# Altium footprint library AMP Footprints.PcbLib: 903 footprints (part 36 of 58)
Each footprint in its own frame and in the unit in brackets; x right, y up, seen from the top. Pads: shape width x height; smd on the part's side, far side on the other; paste and mask are expansions set on the pad; w line width, h text height; cw(c..) or ccw(c..) is an arc to the next point about the centre after c.
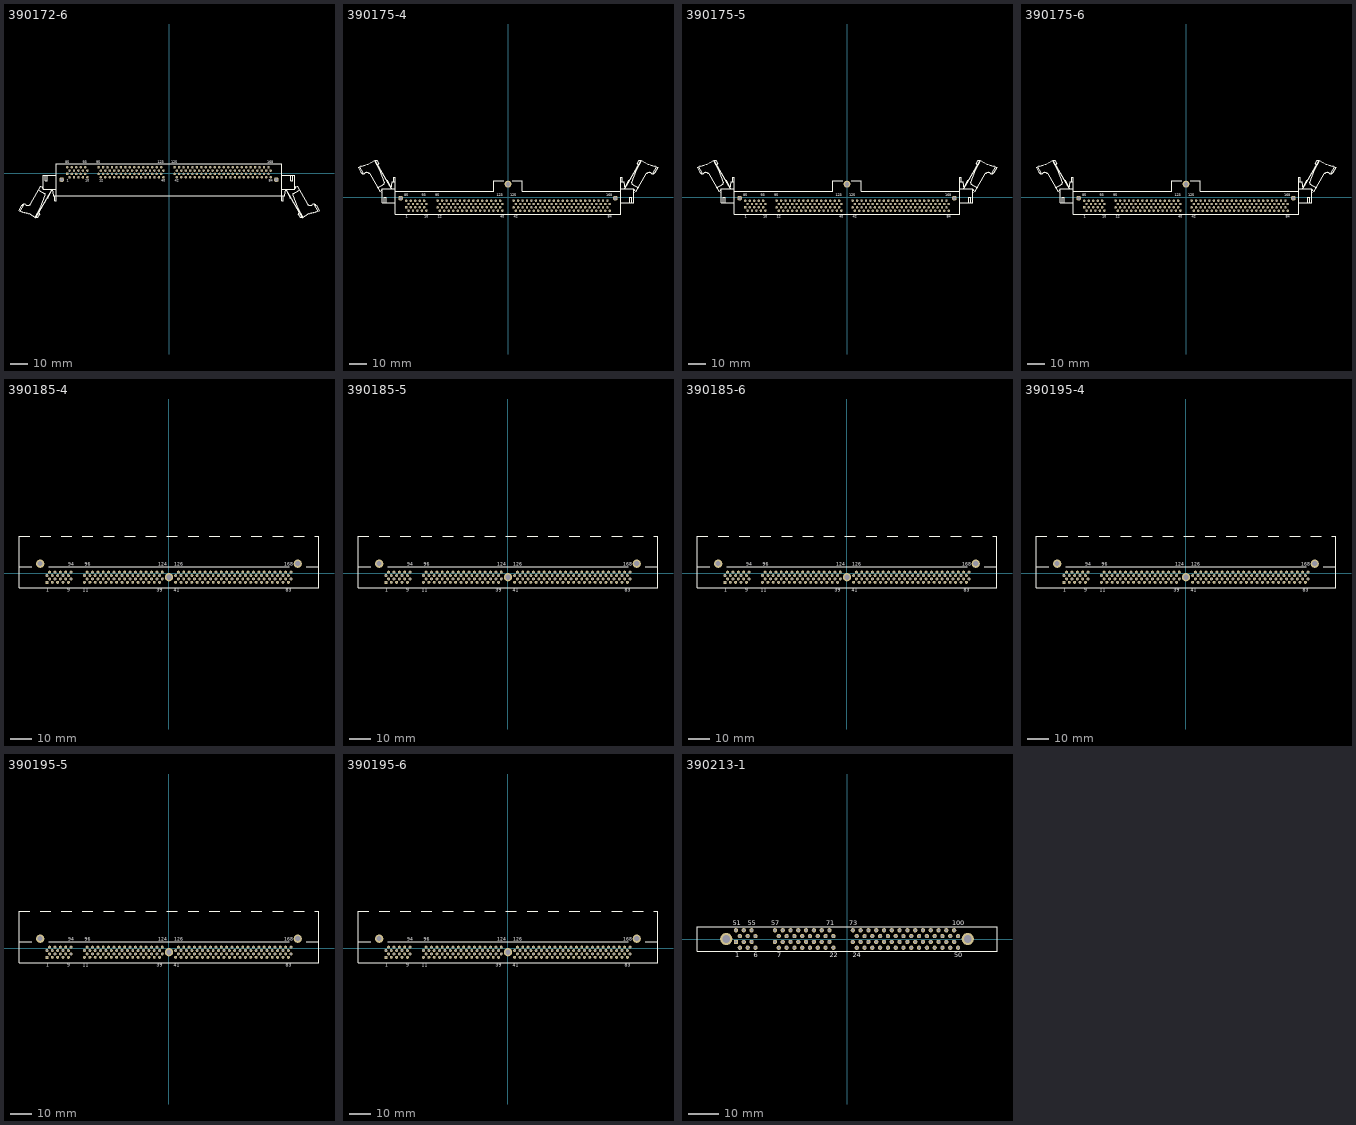
[diagram p35: the footprints below, top view; thin cyan lines are the x and y axes]

## 390172-6 [mm] "Connector; DIMM II; 168 Position; Right Angle"
height 12.7
pads (170):
  rect 1.4x1.4 hole 0.8: 1(-57.785,-0.245)
  round 1.4 hole 0.8: 2(-56.515,-2.145) 3(-55.245,-0.245) 4(-53.975,-2.145) 5(-52.705,-0.245) 6(-51.435,-2.145) 7(-50.165,-0.245) 8(-48.895,-2.145) 9(-47.625,-0.245) 10(-46.355,-2.145) 11(-40.005,-0.245) 12(-38.735,-2.145) 13(-37.465,-0.245) 14(-36.195,-2.145) 15(-34.925,-0.245) 16(-33.655,-2.145) 17(-32.385,-0.245) 18(-31.115,-2.145) 19(-29.845,-0.245) 20(-28.575,-2.145) 21(-27.305,-0.245) 22(-26.035,-2.145) 23(-24.765,-0.245) 24(-23.495,-2.145) 25(-22.225,-0.245) 26(-20.955,-2.145) 27(-19.685,-0.245) 28(-18.415,-2.145) 29(-17.145,-0.245) 30(-15.875,-2.145) 31(-14.605,-0.245) 32(-13.335,-2.145) 33(-12.065,-0.245) 34(-10.795,-2.145) 35(-9.525,-0.245) 36(-8.255,-2.145) 37(-6.985,-0.245) 38(-5.715,-2.145) 39(-4.445,-0.245) 40(-3.175,-2.145) 41(3.175,-0.245) 42(4.445,-2.145) 43(5.715,-0.245) 44(6.985,-2.145) 45(8.255,-0.245) 46(9.525,-2.145) 47(10.795,-0.245) 48(12.065,-2.145) 49(13.335,-0.245) 50(14.605,-2.145) 51(15.875,-0.245) 52(17.145,-2.145) 53(18.415,-0.245) 54(19.685,-2.145) 55(20.955,-0.245) 56(22.225,-2.145) 57(23.495,-0.245) 58(24.765,-2.145) 59(26.035,-0.245) 60(27.305,-2.145) 61(28.575,-0.245) 62(29.845,-2.145) 63(31.115,-0.245) 64(32.385,-2.145) 65(33.655,-0.245) 66(34.925,-2.145) 67(36.195,-0.245) 68(37.465,-2.145) 69(38.735,-0.245) 70(40.005,-2.145) 71(41.275,-0.245) 72(42.545,-2.145) 73(43.815,-0.245) 74(45.085,-2.145) 75(46.355,-0.245) 76(47.625,-2.145) 77(48.895,-0.245) 78(50.165,-2.145) 79(51.435,-0.245) 80(52.705,-2.145) 81(53.975,-0.245) 82(55.245,-2.145) 83(56.515,-0.245) 84(57.785,-2.145) 85(-57.785,3.555) 86(-56.515,1.655) 87(-55.245,3.555) 88(-53.975,1.655) 89(-52.705,3.555) 90(-51.435,1.655) 91(-50.165,3.555) 92(-48.895,1.655) 93(-47.625,3.555) 94(-46.355,1.655) 95(-40.005,3.555) 96(-38.735,1.655) 97(-37.465,3.555) 98(-36.195,1.655) 99(-34.925,3.555) 100(-33.655,1.655) 101(-32.385,3.555) 102(-31.115,1.655) 103(-29.845,3.555) 104(-28.575,1.655) 105(-27.305,3.555) 106(-26.035,1.655) 107(-24.765,3.555) 108(-23.495,1.655) 109(-22.225,3.555) 110(-20.955,1.655) 111(-19.685,3.555) 112(-18.415,1.655) 113(-17.145,3.555) 114(-15.875,1.655) 115(-14.605,3.555) 116(-13.335,1.655) 117(-12.065,3.555) 118(-10.795,1.655) 119(-9.525,3.555) 120(-8.255,1.655) 121(-6.985,3.555) 122(-5.715,1.655) 123(-4.445,3.555) 124(-3.175,1.655) 125(3.175,3.555) 126(4.445,1.655) 127(5.715,3.555) 128(6.985,1.655) 129(8.255,3.555) 130(9.525,1.655) 131(10.795,3.555) 132(12.065,1.655) 133(13.335,3.555) 134(14.605,1.655) 135(15.875,3.555) 136(17.145,1.655) 137(18.415,3.555) 138(19.685,1.655) 139(20.955,3.555) 140(22.225,1.655) 141(23.495,3.555) 142(24.765,1.655) 143(26.035,3.555) 144(27.305,1.655) 145(28.575,3.555) 146(29.845,1.655) 147(31.115,3.555) 148(32.385,1.655) 149(33.655,3.555) 150(34.925,1.655) 151(36.195,3.555) 152(37.465,1.655) 153(38.735,3.555) 154(40.005,1.655) 155(41.275,3.555) 156(42.545,1.655) 157(43.815,3.555) 158(45.085,1.655) 159(46.355,3.555) 160(47.625,1.655) 161(48.895,3.555) 162(50.165,1.655) 163(51.435,3.555) 164(52.705,1.655) 165(53.975,3.555) 166(55.245,1.655) 167(56.515,3.555) 168(57.785,1.655)
  round 2.778 hole 1.778: 169(-60.96,-3.555) 170(60.96,-3.555)
Top Overlay:
  lines w0.25: -84.364,-21.363 -83.299,-21.978 -83.129,-21.683 -82.072,-22.293 -81.991,-22.271 -81.871,-22.064 -80.918,-22.614 -80.803,-22.414 -79.85,-22.964 -79.705,-22.713 -75.652,-25.053 -66.372,-8.98 -68.472,-13.755 -69.13,-13.755 ; -83.575,-18.216 cw(c-82.222,-18.997) -81.441,-17.644 ; -83.54,-18.155 -85.22,-21.065 -84.467,-21.5 -84.372,-21.335 -82.138,-17.487 ; -81.44,-17.647 -80.959,-17.925 ccw(c-80.125,-16.48) -78.679,-17.314 ; -78.664,-17.31 -72.924,-7.368 -71.52,-6.855 ; -75.999,-24.853 -73.049,-19.744 -70.225,-12.333 ccw(c-70.844,-12.118) -70.588,-11.515 ; -75.622,-25.001 -74.612,-24.972 -73.507,-23.058 -73.92,-22.173 ; -74.124,-9.446 -70.469,-11.556 ; -71.52,-8.675 -72.028,-8.167 -71.52,-7.659 ; -70.32,-1.055 -70.32,-4.085 -69.07,-4.085 -69.07,-1.055 ; -66.4,-8.925 -65.76,-12.775 -64,-12.775 ; -65.04,-12.805 -65.04,-15.525 -64,-15.525 -64,-12.775 ; -64,-8.855 -71.52,-8.855 -71.52,-1.055 -64,-1.055 ; 64,-8.855 71.52,-8.855 71.52,-1.055 64,-1.055 ; 65.04,-12.805 65.04,-15.525 64,-15.525 64,-12.775 ; 66.4,-8.925 65.76,-12.775 64,-12.775 ; 69.07,-1.055 69.07,-4.085 70.32,-4.085 70.32,-1.055 ; 69.13,-13.755 68.472,-13.755 66.372,-8.98 75.652,-25.053 79.705,-22.713 79.85,-22.964 80.803,-22.414 80.918,-22.614 81.871,-22.064 81.991,-22.271 82.072,-22.293 83.129,-21.683 83.299,-21.978 84.364,-21.363 ; 70.469,-11.556 74.124,-9.446 ; 70.588,-11.515 ccw(c70.844,-12.118) 70.225,-12.333 73.049,-19.744 75.999,-24.853 ; 71.52,-8.675 72.028,-8.167 71.52,-7.659 ; 71.52,-6.855 72.924,-7.368 78.664,-17.31 ; 73.92,-22.173 73.507,-23.058 74.612,-24.972 75.622,-25.001 ; 78.679,-17.314 ccw(c80.125,-16.48) 80.959,-17.925 81.44,-17.647 ; 81.441,-17.644 cw(c82.222,-18.997) 83.575,-18.216 ; 82.138,-17.487 84.372,-21.335 84.467,-21.5 85.22,-21.065 83.54,-18.155 ; -64,-12.775 64,-12.775 ; -64,-12.775 -64,-1.055 ; -64,-1.055 -64,5.445 64,5.445 64,-1.055 ; 64,-12.775 64,-1.055
  text "1" at -58.035,-4.72 h1.5
  text "85" at -59.035,5.92 h1.5
  text "10" at -47.48,-4.72 h1.5
  text "93" at -48.875,5.92 h1.5
  text "95" at -41.255,5.92 h1.5
  text "40" at -4.425,-4.72 h1.5
  text "123" at -6.32,5.92 h1.5
  text "125" at 1.3,5.92 h1.5
  text "42" at 3.195,-4.72 h1.5
  text "84" at 56.535,-4.72 h1.5
  text "168" at 55.91,5.92 h1.5
  text "12" at -39.61,-4.72 h1.5

## 390175-4 [mm] "Connector; DIMM II; 168 Position; Right Angle"
height 14.35
pads (171):
  rect 1.4x1.4 hole 0.81: 1(-57.785,-5.645)
  round 1.4 hole 0.81: 2(-56.515,-7.545) 3(-55.245,-5.645) 4(-53.975,-7.545) 5(-52.705,-5.645) 6(-51.435,-7.545) 7(-50.165,-5.645) 8(-48.895,-7.545) 9(-47.625,-5.645) 10(-46.355,-7.545) 11(-40.005,-5.645) 12(-38.735,-7.545) 13(-37.465,-5.645) 14(-36.195,-7.545) 15(-34.925,-5.645) 16(-33.655,-7.545) 17(-32.385,-5.645) 18(-31.115,-7.545) 19(-29.845,-5.645) 20(-28.575,-7.545) 21(-27.305,-5.645) 22(-26.035,-7.545) 23(-24.765,-5.645) 24(-23.495,-7.545) 25(-22.225,-5.645) 26(-20.955,-7.545) 27(-19.685,-5.645) 28(-18.415,-7.545) 29(-17.145,-5.645) 30(-15.875,-7.545) 31(-14.605,-5.645) 32(-13.335,-7.545) 33(-12.065,-5.645) 34(-10.795,-7.545) 35(-9.525,-5.645) 36(-8.255,-7.545) 37(-6.985,-5.645) 38(-5.715,-7.545) 39(-4.445,-5.645) 40(-3.175,-7.545) 41(3.175,-5.645) 42(4.445,-7.545) 43(5.715,-5.645) 44(6.985,-7.545) 45(8.255,-5.645) 46(9.525,-7.545) 47(10.795,-5.645) 48(12.065,-7.545) 49(13.335,-5.645) 50(14.605,-7.545) 51(15.875,-5.645) 52(17.145,-7.545) 53(18.415,-5.645) 54(19.685,-7.545) 55(20.955,-5.645) 56(22.225,-7.545) 57(23.495,-5.645) 58(24.765,-7.545) 59(26.035,-5.645) 60(27.305,-7.545) 61(28.575,-5.645) 62(29.845,-7.545) 63(31.115,-5.645) 64(32.385,-7.545) 65(33.655,-5.645) 66(34.925,-7.545) 67(36.195,-5.645) 68(37.465,-7.545) 69(38.735,-5.645) 70(40.005,-7.545) 71(41.275,-5.645) 72(42.545,-7.545) 73(43.815,-5.645) 74(45.085,-7.545) 75(46.355,-5.645) 76(47.625,-7.545) 77(48.895,-5.645) 78(50.165,-7.545) 79(51.435,-5.645) 80(52.705,-7.545) 81(53.975,-5.645) 82(55.245,-7.545) 83(56.515,-5.645) 84(57.785,-7.545) 85(-57.785,-1.845) 86(-56.515,-3.745) 87(-55.245,-1.845) 88(-53.975,-3.745) 89(-52.705,-1.845) 90(-51.435,-3.745) 91(-50.165,-1.845) 92(-48.895,-3.745) 93(-47.625,-1.845) 94(-46.355,-3.745) 95(-40.005,-1.845) 96(-38.735,-3.745) 97(-37.465,-1.845) 98(-36.195,-3.745) 99(-34.925,-1.845) 100(-33.655,-3.745) 101(-32.385,-1.845) 102(-31.115,-3.745) 103(-29.845,-1.845) 104(-28.575,-3.745) 105(-27.305,-1.845) 106(-26.035,-3.745) 107(-24.765,-1.845) 108(-23.495,-3.745) 109(-22.225,-1.845) 110(-20.955,-3.745) 111(-19.685,-1.845) 112(-18.415,-3.745) 113(-17.145,-1.845) 114(-15.875,-3.745) 115(-14.605,-1.845) 116(-13.335,-3.745) 117(-12.065,-1.845) 118(-10.795,-3.745) 119(-9.525,-1.845) 120(-8.255,-3.745) 121(-6.985,-1.845) 122(-5.715,-3.745) 123(-4.445,-1.845) 124(-3.175,-3.745) 125(3.175,-1.845) 126(4.445,-3.745) 127(5.715,-1.845) 128(6.985,-3.745) 129(8.255,-1.845) 130(9.525,-3.745) 131(10.795,-1.845) 132(12.065,-3.745) 133(13.335,-1.845) 134(14.605,-3.745) 135(15.875,-1.845) 136(17.145,-3.745) 137(18.415,-1.845) 138(19.685,-3.745) 139(20.955,-1.845) 140(22.225,-3.745) 141(23.495,-1.845) 142(24.765,-3.745) 143(26.035,-1.845) 144(27.305,-3.745) 145(28.575,-1.845) 146(29.845,-3.745) 147(31.115,-1.845) 148(32.385,-3.745) 149(33.655,-1.845) 150(34.925,-3.745) 151(36.195,-1.845) 152(37.465,-3.745) 153(38.735,-1.845) 154(40.005,-3.745) 155(41.275,-1.845) 156(42.545,-3.745) 157(43.815,-1.845) 158(45.085,-3.745) 159(46.355,-1.845) 160(47.625,-3.745) 161(48.895,-1.845) 162(50.165,-3.745) 163(51.435,-1.845) 164(52.705,-3.745) 165(53.975,-1.845) 166(55.245,-3.745) 167(56.515,-1.845) 168(57.785,-3.745)
  round 2.778 hole 1.778: 169(60.96,-0.455) 171(-60.96,-0.455)
  round 3.94 hole 2.44: 170(0,7.545)
Top Overlay:
  lines w0.25: -84.364,17.373 -83.299,17.988 -83.129,17.693 -82.072,18.303 -81.991,18.281 -81.871,18.074 -80.918,18.624 -80.803,18.424 -79.85,18.974 -79.705,18.723 -75.652,21.063 -66.372,4.99 -68.472,9.765 -69.13,9.765 ; -83.575,14.226 ccw(c-82.222,15.007) -81.441,13.654 ; -83.54,14.165 -85.22,17.075 -84.467,17.51 -84.372,17.345 -82.138,13.497 ; -81.44,13.657 -80.959,13.935 cw(c-80.125,12.49) -78.679,13.324 ; -78.664,13.32 -72.924,3.378 -71.52,2.865 ; -75.999,20.863 -73.049,15.754 -70.225,8.343 cw(c-70.844,8.128) -70.588,7.525 ; -75.622,21.011 -74.612,20.982 -73.507,19.068 -73.92,18.183 ; -74.124,5.456 -70.469,7.566 ; -71.52,3.669 -72.028,4.177 -71.52,4.685 ; -70.32,-2.935 -70.32,0.095 -69.07,0.095 -69.07,-2.935 ; -66.4,4.935 -65.76,8.785 -64,8.785 ; -65.04,8.815 -65.04,11.535 -64,11.535 -64,8.785 ; -64,3.565 -8.115,3.565 -8.115,9.565 -2.5,9.565 ; -64,4.865 -71.52,4.865 -71.52,-2.935 -64,-2.935 ; 2.5,9.565 8.115,9.565 8.115,3.565 64,3.565 ; 64,4.865 71.52,4.865 71.52,-2.935 64,-2.935 ; 65.04,8.815 65.04,11.535 64,11.535 64,8.785 ; 66.4,4.935 65.76,8.785 64,8.785 ; 69.07,-2.935 69.07,0.095 70.32,0.095 70.32,-2.935 ; 69.13,9.765 68.472,9.765 66.372,4.99 75.652,21.063 79.705,18.723 79.85,18.974 80.803,18.424 80.918,18.624 81.871,18.074 81.991,18.281 82.072,18.303 83.129,17.693 83.299,17.988 84.364,17.373 ; 70.469,7.566 74.124,5.456 ; 70.588,7.525 cw(c70.844,8.128) 70.225,8.343 73.049,15.754 75.999,20.863 ; 71.52,2.865 72.924,3.378 78.664,13.32 ; 71.52,3.669 72.028,4.177 71.52,4.685 ; 73.92,18.183 73.507,19.068 74.612,20.982 75.622,21.011 ; 78.679,13.324 cw(c80.125,12.49) 80.959,13.935 81.44,13.657 ; 81.441,13.654 ccw(c82.222,15.007) 83.575,14.226 ; 82.138,13.497 84.372,17.345 84.467,17.51 85.22,17.075 83.54,14.165 ; -64,-2.935 -64,8.785 ; -64,-2.935 -64,-9.435 64,-9.435 64,-2.935 ; 64,-2.935 64,8.785
  text "40" at -4.425,-11.515 h1.5
  text "1" at -58.035,-11.515 h1.5
  text "85" at -59.035,0.655 h1.5
  text "10" at -47.605,-11.515 h1.5
  text "93" at -48.875,0.655 h1.5
  text "95" at -41.255,0.655 h1.5
  text "123" at -6.445,0.655 h1.5
  text "125" at 1.175,0.655 h1.5
  text "42" at 3.195,-11.515 h1.5
  text "84" at 56.535,-11.515 h1.5
  text "168" at 55.785,0.655 h1.5
  text "12" at -39.985,-11.515 h1.5

## 390175-5 [mm] "Connector; DIMM II; 168 Position; Right Angle"
height 14.35
pads (171):
  rect 1.4x1.4 hole 0.81: 1(-57.785,-5.645)
  round 1.4 hole 0.81: 2(-56.515,-7.545) 3(-55.245,-5.645) 4(-53.975,-7.545) 5(-52.705,-5.645) 6(-51.435,-7.545) 7(-50.165,-5.645) 8(-48.895,-7.545) 9(-47.625,-5.645) 10(-46.355,-7.545) 11(-40.005,-5.645) 12(-38.735,-7.545) 13(-37.465,-5.645) 14(-36.195,-7.545) 15(-34.925,-5.645) 16(-33.655,-7.545) 17(-32.385,-5.645) 18(-31.115,-7.545) 19(-29.845,-5.645) 20(-28.575,-7.545) 21(-27.305,-5.645) 22(-26.035,-7.545) 23(-24.765,-5.645) 24(-23.495,-7.545) 25(-22.225,-5.645) 26(-20.955,-7.545) 27(-19.685,-5.645) 28(-18.415,-7.545) 29(-17.145,-5.645) 30(-15.875,-7.545) 31(-14.605,-5.645) 32(-13.335,-7.545) 33(-12.065,-5.645) 34(-10.795,-7.545) 35(-9.525,-5.645) 36(-8.255,-7.545) 37(-6.985,-5.645) 38(-5.715,-7.545) 39(-4.445,-5.645) 40(-3.175,-7.545) 41(3.175,-5.645) 42(4.445,-7.545) 43(5.715,-5.645) 44(6.985,-7.545) 45(8.255,-5.645) 46(9.525,-7.545) 47(10.795,-5.645) 48(12.065,-7.545) 49(13.335,-5.645) 50(14.605,-7.545) 51(15.875,-5.645) 52(17.145,-7.545) 53(18.415,-5.645) 54(19.685,-7.545) 55(20.955,-5.645) 56(22.225,-7.545) 57(23.495,-5.645) 58(24.765,-7.545) 59(26.035,-5.645) 60(27.305,-7.545) 61(28.575,-5.645) 62(29.845,-7.545) 63(31.115,-5.645) 64(32.385,-7.545) 65(33.655,-5.645) 66(34.925,-7.545) 67(36.195,-5.645) 68(37.465,-7.545) 69(38.735,-5.645) 70(40.005,-7.545) 71(41.275,-5.645) 72(42.545,-7.545) 73(43.815,-5.645) 74(45.085,-7.545) 75(46.355,-5.645) 76(47.625,-7.545) 77(48.895,-5.645) 78(50.165,-7.545) 79(51.435,-5.645) 80(52.705,-7.545) 81(53.975,-5.645) 82(55.245,-7.545) 83(56.515,-5.645) 84(57.785,-7.545) 85(-57.785,-1.845) 86(-56.515,-3.745) 87(-55.245,-1.845) 88(-53.975,-3.745) 89(-52.705,-1.845) 90(-51.435,-3.745) 91(-50.165,-1.845) 92(-48.895,-3.745) 93(-47.625,-1.845) 94(-46.355,-3.745) 95(-40.005,-1.845) 96(-38.735,-3.745) 97(-37.465,-1.845) 98(-36.195,-3.745) 99(-34.925,-1.845) 100(-33.655,-3.745) 101(-32.385,-1.845) 102(-31.115,-3.745) 103(-29.845,-1.845) 104(-28.575,-3.745) 105(-27.305,-1.845) 106(-26.035,-3.745) 107(-24.765,-1.845) 108(-23.495,-3.745) 109(-22.225,-1.845) 110(-20.955,-3.745) 111(-19.685,-1.845) 112(-18.415,-3.745) 113(-17.145,-1.845) 114(-15.875,-3.745) 115(-14.605,-1.845) 116(-13.335,-3.745) 117(-12.065,-1.845) 118(-10.795,-3.745) 119(-9.525,-1.845) 120(-8.255,-3.745) 121(-6.985,-1.845) 122(-5.715,-3.745) 123(-4.445,-1.845) 124(-3.175,-3.745) 125(3.175,-1.845) 126(4.445,-3.745) 127(5.715,-1.845) 128(6.985,-3.745) 129(8.255,-1.845) 130(9.525,-3.745) 131(10.795,-1.845) 132(12.065,-3.745) 133(13.335,-1.845) 134(14.605,-3.745) 135(15.875,-1.845) 136(17.145,-3.745) 137(18.415,-1.845) 138(19.685,-3.745) 139(20.955,-1.845) 140(22.225,-3.745) 141(23.495,-1.845) 142(24.765,-3.745) 143(26.035,-1.845) 144(27.305,-3.745) 145(28.575,-1.845) 146(29.845,-3.745) 147(31.115,-1.845) 148(32.385,-3.745) 149(33.655,-1.845) 150(34.925,-3.745) 151(36.195,-1.845) 152(37.465,-3.745) 153(38.735,-1.845) 154(40.005,-3.745) 155(41.275,-1.845) 156(42.545,-3.745) 157(43.815,-1.845) 158(45.085,-3.745) 159(46.355,-1.845) 160(47.625,-3.745) 161(48.895,-1.845) 162(50.165,-3.745) 163(51.435,-1.845) 164(52.705,-3.745) 165(53.975,-1.845) 166(55.245,-3.745) 167(56.515,-1.845) 168(57.785,-3.745)
  round 2.778 hole 1.778: 169(60.96,-0.455) 171(-60.96,-0.455)
  round 3.94 hole 2.44: 170(0,7.545)
Top Overlay:
  lines w0.25: -84.364,17.373 -83.299,17.988 -83.129,17.693 -82.072,18.303 -81.991,18.281 -81.871,18.074 -80.918,18.624 -80.803,18.424 -79.85,18.974 -79.705,18.723 -75.652,21.063 -66.372,4.99 -68.472,9.765 -69.13,9.765 ; -83.575,14.226 ccw(c-82.222,15.007) -81.441,13.654 ; -83.54,14.165 -85.22,17.075 -84.467,17.51 -84.372,17.345 -82.138,13.497 ; -81.44,13.657 -80.959,13.935 cw(c-80.125,12.49) -78.679,13.324 ; -78.664,13.32 -72.924,3.378 -71.52,2.865 ; -75.999,20.863 -73.049,15.754 -70.225,8.343 cw(c-70.844,8.128) -70.588,7.525 ; -75.622,21.011 -74.612,20.982 -73.507,19.068 -73.92,18.183 ; -74.124,5.456 -70.469,7.566 ; -71.52,3.669 -72.028,4.177 -71.52,4.685 ; -70.32,-2.935 -70.32,0.095 -69.07,0.095 -69.07,-2.935 ; -66.4,4.935 -65.76,8.785 -64,8.785 ; -65.04,8.815 -65.04,11.535 -64,11.535 -64,8.785 ; -64,3.565 -8.115,3.565 -8.115,9.565 -2.5,9.565 ; -64,4.865 -71.52,4.865 -71.52,-2.935 -64,-2.935 ; 2.5,9.565 8.115,9.565 8.115,3.565 64,3.565 ; 64,4.865 71.52,4.865 71.52,-2.935 64,-2.935 ; 65.04,8.815 65.04,11.535 64,11.535 64,8.785 ; 66.4,4.935 65.76,8.785 64,8.785 ; 69.07,-2.935 69.07,0.095 70.32,0.095 70.32,-2.935 ; 69.13,9.765 68.472,9.765 66.372,4.99 75.652,21.063 79.705,18.723 79.85,18.974 80.803,18.424 80.918,18.624 81.871,18.074 81.991,18.281 82.072,18.303 83.129,17.693 83.299,17.988 84.364,17.373 ; 70.469,7.566 74.124,5.456 ; 70.588,7.525 cw(c70.844,8.128) 70.225,8.343 73.049,15.754 75.999,20.863 ; 71.52,2.865 72.924,3.378 78.664,13.32 ; 71.52,3.669 72.028,4.177 71.52,4.685 ; 73.92,18.183 73.507,19.068 74.612,20.982 75.622,21.011 ; 78.679,13.324 cw(c80.125,12.49) 80.959,13.935 81.44,13.657 ; 81.441,13.654 ccw(c82.222,15.007) 83.575,14.226 ; 82.138,13.497 84.372,17.345 84.467,17.51 85.22,17.075 83.54,14.165 ; -64,-2.935 -64,8.785 ; -64,-2.935 -64,-9.435 64,-9.435 64,-2.935 ; 64,-2.935 64,8.785
  text "40" at -4.425,-11.515 h1.5
  text "1" at -58.035,-11.515 h1.5
  text "85" at -59.035,0.655 h1.5
  text "10" at -47.605,-11.515 h1.5
  text "93" at -48.875,0.655 h1.5
  text "95" at -41.255,0.655 h1.5
  text "123" at -6.445,0.655 h1.5
  text "125" at 1.175,0.655 h1.5
  text "42" at 3.195,-11.515 h1.5
  text "84" at 56.535,-11.515 h1.5
  text "168" at 55.785,0.655 h1.5
  text "12" at -39.985,-11.515 h1.5

## 390175-6 [mm] "Connector; DIMM II; 168 Position; Right Angle"
height 14.35
pads (171):
  rect 1.4x1.4 hole 0.81: 1(-57.785,-5.645)
  round 1.4 hole 0.81: 2(-56.515,-7.545) 3(-55.245,-5.645) 4(-53.975,-7.545) 5(-52.705,-5.645) 6(-51.435,-7.545) 7(-50.165,-5.645) 8(-48.895,-7.545) 9(-47.625,-5.645) 10(-46.355,-7.545) 11(-40.005,-5.645) 12(-38.735,-7.545) 13(-37.465,-5.645) 14(-36.195,-7.545) 15(-34.925,-5.645) 16(-33.655,-7.545) 17(-32.385,-5.645) 18(-31.115,-7.545) 19(-29.845,-5.645) 20(-28.575,-7.545) 21(-27.305,-5.645) 22(-26.035,-7.545) 23(-24.765,-5.645) 24(-23.495,-7.545) 25(-22.225,-5.645) 26(-20.955,-7.545) 27(-19.685,-5.645) 28(-18.415,-7.545) 29(-17.145,-5.645) 30(-15.875,-7.545) 31(-14.605,-5.645) 32(-13.335,-7.545) 33(-12.065,-5.645) 34(-10.795,-7.545) 35(-9.525,-5.645) 36(-8.255,-7.545) 37(-6.985,-5.645) 38(-5.715,-7.545) 39(-4.445,-5.645) 40(-3.175,-7.545) 41(3.175,-5.645) 42(4.445,-7.545) 43(5.715,-5.645) 44(6.985,-7.545) 45(8.255,-5.645) 46(9.525,-7.545) 47(10.795,-5.645) 48(12.065,-7.545) 49(13.335,-5.645) 50(14.605,-7.545) 51(15.875,-5.645) 52(17.145,-7.545) 53(18.415,-5.645) 54(19.685,-7.545) 55(20.955,-5.645) 56(22.225,-7.545) 57(23.495,-5.645) 58(24.765,-7.545) 59(26.035,-5.645) 60(27.305,-7.545) 61(28.575,-5.645) 62(29.845,-7.545) 63(31.115,-5.645) 64(32.385,-7.545) 65(33.655,-5.645) 66(34.925,-7.545) 67(36.195,-5.645) 68(37.465,-7.545) 69(38.735,-5.645) 70(40.005,-7.545) 71(41.275,-5.645) 72(42.545,-7.545) 73(43.815,-5.645) 74(45.085,-7.545) 75(46.355,-5.645) 76(47.625,-7.545) 77(48.895,-5.645) 78(50.165,-7.545) 79(51.435,-5.645) 80(52.705,-7.545) 81(53.975,-5.645) 82(55.245,-7.545) 83(56.515,-5.645) 84(57.785,-7.545) 85(-57.785,-1.845) 86(-56.515,-3.745) 87(-55.245,-1.845) 88(-53.975,-3.745) 89(-52.705,-1.845) 90(-51.435,-3.745) 91(-50.165,-1.845) 92(-48.895,-3.745) 93(-47.625,-1.845) 94(-46.355,-3.745) 95(-40.005,-1.845) 96(-38.735,-3.745) 97(-37.465,-1.845) 98(-36.195,-3.745) 99(-34.925,-1.845) 100(-33.655,-3.745) 101(-32.385,-1.845) 102(-31.115,-3.745) 103(-29.845,-1.845) 104(-28.575,-3.745) 105(-27.305,-1.845) 106(-26.035,-3.745) 107(-24.765,-1.845) 108(-23.495,-3.745) 109(-22.225,-1.845) 110(-20.955,-3.745) 111(-19.685,-1.845) 112(-18.415,-3.745) 113(-17.145,-1.845) 114(-15.875,-3.745) 115(-14.605,-1.845) 116(-13.335,-3.745) 117(-12.065,-1.845) 118(-10.795,-3.745) 119(-9.525,-1.845) 120(-8.255,-3.745) 121(-6.985,-1.845) 122(-5.715,-3.745) 123(-4.445,-1.845) 124(-3.175,-3.745) 125(3.175,-1.845) 126(4.445,-3.745) 127(5.715,-1.845) 128(6.985,-3.745) 129(8.255,-1.845) 130(9.525,-3.745) 131(10.795,-1.845) 132(12.065,-3.745) 133(13.335,-1.845) 134(14.605,-3.745) 135(15.875,-1.845) 136(17.145,-3.745) 137(18.415,-1.845) 138(19.685,-3.745) 139(20.955,-1.845) 140(22.225,-3.745) 141(23.495,-1.845) 142(24.765,-3.745) 143(26.035,-1.845) 144(27.305,-3.745) 145(28.575,-1.845) 146(29.845,-3.745) 147(31.115,-1.845) 148(32.385,-3.745) 149(33.655,-1.845) 150(34.925,-3.745) 151(36.195,-1.845) 152(37.465,-3.745) 153(38.735,-1.845) 154(40.005,-3.745) 155(41.275,-1.845) 156(42.545,-3.745) 157(43.815,-1.845) 158(45.085,-3.745) 159(46.355,-1.845) 160(47.625,-3.745) 161(48.895,-1.845) 162(50.165,-3.745) 163(51.435,-1.845) 164(52.705,-3.745) 165(53.975,-1.845) 166(55.245,-3.745) 167(56.515,-1.845) 168(57.785,-3.745)
  round 2.778 hole 1.778: 169(60.96,-0.455) 171(-60.96,-0.455)
  round 3.94 hole 2.44: 170(0,7.545)
Top Overlay:
  lines w0.25: -84.364,17.373 -83.299,17.988 -83.129,17.693 -82.072,18.303 -81.991,18.281 -81.871,18.074 -80.918,18.624 -80.803,18.424 -79.85,18.974 -79.705,18.723 -75.652,21.063 -66.372,4.99 -68.472,9.765 -69.13,9.765 ; -83.575,14.226 ccw(c-82.222,15.007) -81.441,13.654 ; -83.54,14.165 -85.22,17.075 -84.467,17.51 -84.372,17.345 -82.138,13.497 ; -81.44,13.657 -80.959,13.935 cw(c-80.125,12.49) -78.679,13.324 ; -78.664,13.32 -72.924,3.378 -71.52,2.865 ; -75.999,20.863 -73.049,15.754 -70.225,8.343 cw(c-70.844,8.128) -70.588,7.525 ; -75.622,21.011 -74.612,20.982 -73.507,19.068 -73.92,18.183 ; -74.124,5.456 -70.469,7.566 ; -71.52,3.669 -72.028,4.177 -71.52,4.685 ; -70.32,-2.935 -70.32,0.095 -69.07,0.095 -69.07,-2.935 ; -66.4,4.935 -65.76,8.785 -64,8.785 ; -65.04,8.815 -65.04,11.535 -64,11.535 -64,8.785 ; -64,3.565 -8.115,3.565 -8.115,9.565 -2.5,9.565 ; -64,4.865 -71.52,4.865 -71.52,-2.935 -64,-2.935 ; 2.5,9.565 8.115,9.565 8.115,3.565 64,3.565 ; 64,4.865 71.52,4.865 71.52,-2.935 64,-2.935 ; 65.04,8.815 65.04,11.535 64,11.535 64,8.785 ; 66.4,4.935 65.76,8.785 64,8.785 ; 69.07,-2.935 69.07,0.095 70.32,0.095 70.32,-2.935 ; 69.13,9.765 68.472,9.765 66.372,4.99 75.652,21.063 79.705,18.723 79.85,18.974 80.803,18.424 80.918,18.624 81.871,18.074 81.991,18.281 82.072,18.303 83.129,17.693 83.299,17.988 84.364,17.373 ; 70.469,7.566 74.124,5.456 ; 70.588,7.525 cw(c70.844,8.128) 70.225,8.343 73.049,15.754 75.999,20.863 ; 71.52,2.865 72.924,3.378 78.664,13.32 ; 71.52,3.669 72.028,4.177 71.52,4.685 ; 73.92,18.183 73.507,19.068 74.612,20.982 75.622,21.011 ; 78.679,13.324 cw(c80.125,12.49) 80.959,13.935 81.44,13.657 ; 81.441,13.654 ccw(c82.222,15.007) 83.575,14.226 ; 82.138,13.497 84.372,17.345 84.467,17.51 85.22,17.075 83.54,14.165 ; -64,-2.935 -64,8.785 ; -64,-2.935 -64,-9.435 64,-9.435 64,-2.935 ; 64,-2.935 64,8.785
  text "40" at -4.425,-11.515 h1.5
  text "1" at -58.035,-11.515 h1.5
  text "85" at -59.035,0.655 h1.5
  text "10" at -47.605,-11.515 h1.5
  text "93" at -48.875,0.655 h1.5
  text "95" at -41.255,0.655 h1.5
  text "123" at -6.445,0.655 h1.5
  text "125" at 1.175,0.655 h1.5
  text "42" at 3.195,-11.515 h1.5
  text "84" at 56.535,-11.515 h1.5
  text "168" at 55.785,0.655 h1.5
  text "12" at -39.985,-11.515 h1.5

## 390185-4 [mm] "Connector; DIMM II; 168 Position; Orientation 25°"
height 14.93
pads (171):
  rect 1.4x1.4 hole 0.8: 1(-57.785,-4.4)
  round 1.4 hole 0.8: 2(-56.515,-2.8) 3(-55.245,-4.4) 4(-53.975,-2.8) 5(-52.705,-4.4) 6(-51.435,-2.8) 7(-50.165,-4.4) 8(-48.895,-2.8) 9(-47.625,-4.4) 10(-46.355,-2.8) 11(-40.005,-4.4) 12(-38.735,-2.8) 13(-37.465,-4.4) 14(-36.195,-2.8) 15(-34.925,-4.4) 16(-33.655,-2.8) 17(-32.385,-4.4) 18(-31.115,-2.8) 19(-29.845,-4.4) 20(-28.575,-2.8) 21(-27.305,-4.4) 22(-26.035,-2.8) 23(-24.765,-4.4) 24(-23.495,-2.8) 25(-22.225,-4.4) 26(-20.955,-2.8) 27(-19.685,-4.4) 28(-18.415,-2.8) 29(-17.145,-4.4) 30(-15.875,-2.8) 31(-14.605,-4.4) 32(-13.335,-2.8) 33(-12.065,-4.4) 34(-10.795,-2.8) 35(-9.525,-4.4) 36(-8.255,-2.8) 37(-6.985,-4.4) 38(-5.715,-2.8) 39(-4.445,-4.4) 40(-3.175,-2.8) 41(3.175,-4.4) 42(4.445,-2.8) 43(5.715,-4.4) 44(6.985,-2.8) 45(8.255,-4.4) 46(9.525,-2.8) 47(10.795,-4.4) 48(12.065,-2.8) 49(13.335,-4.4) 50(14.605,-2.8) 51(15.875,-4.4) 52(17.145,-2.8) 53(18.415,-4.4) 54(19.685,-2.8) 55(20.955,-4.4) 56(22.225,-2.8) 57(23.495,-4.4) 58(24.765,-2.8) 59(26.035,-4.4) 60(27.305,-2.8) 61(28.575,-4.4) 62(29.845,-2.8) 63(31.115,-4.4) 64(32.385,-2.8) 65(33.655,-4.4) 66(34.925,-2.8) 67(36.195,-4.4) 68(37.465,-2.8) 69(38.735,-4.4) 70(40.005,-2.8) 71(41.275,-4.4) 72(42.545,-2.8) 73(43.815,-4.4) 74(45.085,-2.8) 75(46.355,-4.4) 76(47.625,-2.8) 77(48.895,-4.4) 78(50.165,-2.8) 79(51.435,-4.4) 80(52.705,-2.8) 81(53.975,-4.4) 82(55.245,-2.8) 83(56.515,-4.4) 84(57.785,-2.8) 85(-57.785,-1.2) 86(-56.515,0.4) 87(-55.245,-1.2) 88(-53.975,0.4) 89(-52.705,-1.2) 90(-51.435,0.4) 91(-50.165,-1.2) 92(-48.895,0.4) 93(-47.625,-1.2) 94(-46.355,0.4) 95(-40.005,-1.2) 96(-38.735,0.4) 97(-37.465,-1.2) 98(-36.195,0.4) 99(-34.925,-1.2) 100(-33.655,0.4) 101(-32.385,-1.2) 102(-31.115,0.4) 103(-29.845,-1.2) 104(-28.575,0.4) 105(-27.305,-1.2) 106(-26.035,0.4) 107(-24.765,-1.2) 108(-23.495,0.4) 109(-22.225,-1.2) 110(-20.955,0.4) 111(-19.685,-1.2) 112(-18.415,0.4) 113(-17.145,-1.2) 114(-15.875,0.4) 115(-14.605,-1.2) 116(-13.335,0.4) 117(-12.065,-1.2) 118(-10.795,0.4) 119(-9.525,-1.2) 120(-8.255,0.4) 121(-6.985,-1.2) 122(-5.715,0.4) 123(-4.445,-1.2) 124(-3.175,0.4) 125(3.175,-1.2) 126(4.445,0.4) 127(5.715,-1.2) 128(6.985,0.4) 129(8.255,-1.2) 130(9.525,0.4) 131(10.795,-1.2) 132(12.065,0.4) 133(13.335,-1.2) 134(14.605,0.4) 135(15.875,-1.2) 136(17.145,0.4) 137(18.415,-1.2) 138(19.685,0.4) 139(20.955,-1.2) 140(22.225,0.4) 141(23.495,-1.2) 142(24.765,0.4) 143(26.035,-1.2) 144(27.305,0.4) 145(28.575,-1.2) 146(29.845,0.4) 147(31.115,-1.2) 148(32.385,0.4) 149(33.655,-1.2) 150(34.925,0.4) 151(36.195,-1.2) 152(37.465,0.4) 153(38.735,-1.2) 154(40.005,0.4) 155(41.275,-1.2) 156(42.545,0.4) 157(43.815,-1.2) 158(45.085,0.4) 159(46.355,-1.2) 160(47.625,0.4) 161(48.895,-1.2) 162(50.165,0.4) 163(51.435,-1.2) 164(52.705,0.4) 165(53.975,-1.2) 166(55.245,0.4) 167(56.515,-1.2) 168(57.785,0.4)
  round 3.9 hole 2.4: 169(-60.96,4.4) 170(0,-2) 171(60.96,4.4)
Top Overlay:
  lines w0.2: -70.98,3 -70.98,17.5 -65.98,17.5 ; -65,3 -71,3 -71,-7 71,-7 71,3 ; -60.98,17.5 -55.98,17.5 ; -57,3 57,3 ; -50.98,17.5 -45.98,17.5 ; -40.98,17.5 -35.98,17.5 ; -30.98,17.5 -25.98,17.5 ; -20.98,17.5 -15.98,17.5 ; -10.98,17.5 -5.98,17.5 ; -0.98,17.5 4.02,17.5 ; 9.02,17.5 14.02,17.5 ; 19.02,17.5 24.02,17.5 ; 29.02,17.5 34.02,17.5 ; 39.02,17.5 44.02,17.5 ; 49.02,17.5 54.02,17.5 ; 59.02,17.5 64.02,17.5 ; 65,3 71,3 ; 69.02,17.5 71.02,17.5 ; 71,17.5 71,3
  text "1" at -58.035,-8.975 h1.5
  text "94" at -47.605,3.475 h1.5
  text "11" at -40.88,-8.975 h1.5
  text "96" at -39.985,3.475 h1.5
  text "124" at -5.05,3.475 h1.5
  text "41" at 2.175,-8.975 h1.5
  text "126" at 2.57,3.475 h1.5
  text "83" at 55.265,-8.975 h1.5
  text "9" at -48.125,-8.975 h1.5
  text "39" at -5.695,-8.975 h1.5
  text "168" at 54.585,3.475 h1.5

## 390185-5 [mm] "Connector; DIMM II; 168 Position; Orientation 25°"
height 14.93
pads (171):
  rect 1.4x1.4 hole 0.8: 1(-57.785,-4.4)
  round 1.4 hole 0.8: 2(-56.515,-2.8) 3(-55.245,-4.4) 4(-53.975,-2.8) 5(-52.705,-4.4) 6(-51.435,-2.8) 7(-50.165,-4.4) 8(-48.895,-2.8) 9(-47.625,-4.4) 10(-46.355,-2.8) 11(-40.005,-4.4) 12(-38.735,-2.8) 13(-37.465,-4.4) 14(-36.195,-2.8) 15(-34.925,-4.4) 16(-33.655,-2.8) 17(-32.385,-4.4) 18(-31.115,-2.8) 19(-29.845,-4.4) 20(-28.575,-2.8) 21(-27.305,-4.4) 22(-26.035,-2.8) 23(-24.765,-4.4) 24(-23.495,-2.8) 25(-22.225,-4.4) 26(-20.955,-2.8) 27(-19.685,-4.4) 28(-18.415,-2.8) 29(-17.145,-4.4) 30(-15.875,-2.8) 31(-14.605,-4.4) 32(-13.335,-2.8) 33(-12.065,-4.4) 34(-10.795,-2.8) 35(-9.525,-4.4) 36(-8.255,-2.8) 37(-6.985,-4.4) 38(-5.715,-2.8) 39(-4.445,-4.4) 40(-3.175,-2.8) 41(3.175,-4.4) 42(4.445,-2.8) 43(5.715,-4.4) 44(6.985,-2.8) 45(8.255,-4.4) 46(9.525,-2.8) 47(10.795,-4.4) 48(12.065,-2.8) 49(13.335,-4.4) 50(14.605,-2.8) 51(15.875,-4.4) 52(17.145,-2.8) 53(18.415,-4.4) 54(19.685,-2.8) 55(20.955,-4.4) 56(22.225,-2.8) 57(23.495,-4.4) 58(24.765,-2.8) 59(26.035,-4.4) 60(27.305,-2.8) 61(28.575,-4.4) 62(29.845,-2.8) 63(31.115,-4.4) 64(32.385,-2.8) 65(33.655,-4.4) 66(34.925,-2.8) 67(36.195,-4.4) 68(37.465,-2.8) 69(38.735,-4.4) 70(40.005,-2.8) 71(41.275,-4.4) 72(42.545,-2.8) 73(43.815,-4.4) 74(45.085,-2.8) 75(46.355,-4.4) 76(47.625,-2.8) 77(48.895,-4.4) 78(50.165,-2.8) 79(51.435,-4.4) 80(52.705,-2.8) 81(53.975,-4.4) 82(55.245,-2.8) 83(56.515,-4.4) 84(57.785,-2.8) 85(-57.785,-1.2) 86(-56.515,0.4) 87(-55.245,-1.2) 88(-53.975,0.4) 89(-52.705,-1.2) 90(-51.435,0.4) 91(-50.165,-1.2) 92(-48.895,0.4) 93(-47.625,-1.2) 94(-46.355,0.4) 95(-40.005,-1.2) 96(-38.735,0.4) 97(-37.465,-1.2) 98(-36.195,0.4) 99(-34.925,-1.2) 100(-33.655,0.4) 101(-32.385,-1.2) 102(-31.115,0.4) 103(-29.845,-1.2) 104(-28.575,0.4) 105(-27.305,-1.2) 106(-26.035,0.4) 107(-24.765,-1.2) 108(-23.495,0.4) 109(-22.225,-1.2) 110(-20.955,0.4) 111(-19.685,-1.2) 112(-18.415,0.4) 113(-17.145,-1.2) 114(-15.875,0.4) 115(-14.605,-1.2) 116(-13.335,0.4) 117(-12.065,-1.2) 118(-10.795,0.4) 119(-9.525,-1.2) 120(-8.255,0.4) 121(-6.985,-1.2) 122(-5.715,0.4) 123(-4.445,-1.2) 124(-3.175,0.4) 125(3.175,-1.2) 126(4.445,0.4) 127(5.715,-1.2) 128(6.985,0.4) 129(8.255,-1.2) 130(9.525,0.4) 131(10.795,-1.2) 132(12.065,0.4) 133(13.335,-1.2) 134(14.605,0.4) 135(15.875,-1.2) 136(17.145,0.4) 137(18.415,-1.2) 138(19.685,0.4) 139(20.955,-1.2) 140(22.225,0.4) 141(23.495,-1.2) 142(24.765,0.4) 143(26.035,-1.2) 144(27.305,0.4) 145(28.575,-1.2) 146(29.845,0.4) 147(31.115,-1.2) 148(32.385,0.4) 149(33.655,-1.2) 150(34.925,0.4) 151(36.195,-1.2) 152(37.465,0.4) 153(38.735,-1.2) 154(40.005,0.4) 155(41.275,-1.2) 156(42.545,0.4) 157(43.815,-1.2) 158(45.085,0.4) 159(46.355,-1.2) 160(47.625,0.4) 161(48.895,-1.2) 162(50.165,0.4) 163(51.435,-1.2) 164(52.705,0.4) 165(53.975,-1.2) 166(55.245,0.4) 167(56.515,-1.2) 168(57.785,0.4)
  round 3.9 hole 2.4: 169(-60.96,4.4) 170(0,-2) 171(60.96,4.4)
Top Overlay:
  lines w0.2: -70.98,3 -70.98,17.5 -65.98,17.5 ; -65,3 -71,3 -71,-7 71,-7 71,3 ; -60.98,17.5 -55.98,17.5 ; -57,3 57,3 ; -50.98,17.5 -45.98,17.5 ; -40.98,17.5 -35.98,17.5 ; -30.98,17.5 -25.98,17.5 ; -20.98,17.5 -15.98,17.5 ; -10.98,17.5 -5.98,17.5 ; -0.98,17.5 4.02,17.5 ; 9.02,17.5 14.02,17.5 ; 19.02,17.5 24.02,17.5 ; 29.02,17.5 34.02,17.5 ; 39.02,17.5 44.02,17.5 ; 49.02,17.5 54.02,17.5 ; 59.02,17.5 64.02,17.5 ; 65,3 71,3 ; 69.02,17.5 71.02,17.5 ; 71,17.5 71,3
  text "1" at -58.035,-8.975 h1.5
  text "94" at -47.605,3.475 h1.5
  text "11" at -40.88,-8.975 h1.5
  text "96" at -39.985,3.475 h1.5
  text "124" at -5.05,3.475 h1.5
  text "41" at 2.175,-8.975 h1.5
  text "126" at 2.57,3.475 h1.5
  text "83" at 55.265,-8.975 h1.5
  text "9" at -48.125,-8.975 h1.5
  text "39" at -5.695,-8.975 h1.5
  text "168" at 54.585,3.475 h1.5

## 390185-6 [mm] "Connector; DIMM II; 168 Position; Orientation 25°"
height 14.93
pads (171):
  rect 1.4x1.4 hole 0.8: 1(-57.785,-4.4)
  round 1.4 hole 0.8: 2(-56.515,-2.8) 3(-55.245,-4.4) 4(-53.975,-2.8) 5(-52.705,-4.4) 6(-51.435,-2.8) 7(-50.165,-4.4) 8(-48.895,-2.8) 9(-47.625,-4.4) 10(-46.355,-2.8) 11(-40.005,-4.4) 12(-38.735,-2.8) 13(-37.465,-4.4) 14(-36.195,-2.8) 15(-34.925,-4.4) 16(-33.655,-2.8) 17(-32.385,-4.4) 18(-31.115,-2.8) 19(-29.845,-4.4) 20(-28.575,-2.8) 21(-27.305,-4.4) 22(-26.035,-2.8) 23(-24.765,-4.4) 24(-23.495,-2.8) 25(-22.225,-4.4) 26(-20.955,-2.8) 27(-19.685,-4.4) 28(-18.415,-2.8) 29(-17.145,-4.4) 30(-15.875,-2.8) 31(-14.605,-4.4) 32(-13.335,-2.8) 33(-12.065,-4.4) 34(-10.795,-2.8) 35(-9.525,-4.4) 36(-8.255,-2.8) 37(-6.985,-4.4) 38(-5.715,-2.8) 39(-4.445,-4.4) 40(-3.175,-2.8) 41(3.175,-4.4) 42(4.445,-2.8) 43(5.715,-4.4) 44(6.985,-2.8) 45(8.255,-4.4) 46(9.525,-2.8) 47(10.795,-4.4) 48(12.065,-2.8) 49(13.335,-4.4) 50(14.605,-2.8) 51(15.875,-4.4) 52(17.145,-2.8) 53(18.415,-4.4) 54(19.685,-2.8) 55(20.955,-4.4) 56(22.225,-2.8) 57(23.495,-4.4) 58(24.765,-2.8) 59(26.035,-4.4) 60(27.305,-2.8) 61(28.575,-4.4) 62(29.845,-2.8) 63(31.115,-4.4) 64(32.385,-2.8) 65(33.655,-4.4) 66(34.925,-2.8) 67(36.195,-4.4) 68(37.465,-2.8) 69(38.735,-4.4) 70(40.005,-2.8) 71(41.275,-4.4) 72(42.545,-2.8) 73(43.815,-4.4) 74(45.085,-2.8) 75(46.355,-4.4) 76(47.625,-2.8) 77(48.895,-4.4) 78(50.165,-2.8) 79(51.435,-4.4) 80(52.705,-2.8) 81(53.975,-4.4) 82(55.245,-2.8) 83(56.515,-4.4) 84(57.785,-2.8) 85(-57.785,-1.2) 86(-56.515,0.4) 87(-55.245,-1.2) 88(-53.975,0.4) 89(-52.705,-1.2) 90(-51.435,0.4) 91(-50.165,-1.2) 92(-48.895,0.4) 93(-47.625,-1.2) 94(-46.355,0.4) 95(-40.005,-1.2) 96(-38.735,0.4) 97(-37.465,-1.2) 98(-36.195,0.4) 99(-34.925,-1.2) 100(-33.655,0.4) 101(-32.385,-1.2) 102(-31.115,0.4) 103(-29.845,-1.2) 104(-28.575,0.4) 105(-27.305,-1.2) 106(-26.035,0.4) 107(-24.765,-1.2) 108(-23.495,0.4) 109(-22.225,-1.2) 110(-20.955,0.4) 111(-19.685,-1.2) 112(-18.415,0.4) 113(-17.145,-1.2) 114(-15.875,0.4) 115(-14.605,-1.2) 116(-13.335,0.4) 117(-12.065,-1.2) 118(-10.795,0.4) 119(-9.525,-1.2) 120(-8.255,0.4) 121(-6.985,-1.2) 122(-5.715,0.4) 123(-4.445,-1.2) 124(-3.175,0.4) 125(3.175,-1.2) 126(4.445,0.4) 127(5.715,-1.2) 128(6.985,0.4) 129(8.255,-1.2) 130(9.525,0.4) 131(10.795,-1.2) 132(12.065,0.4) 133(13.335,-1.2) 134(14.605,0.4) 135(15.875,-1.2) 136(17.145,0.4) 137(18.415,-1.2) 138(19.685,0.4) 139(20.955,-1.2) 140(22.225,0.4) 141(23.495,-1.2) 142(24.765,0.4) 143(26.035,-1.2) 144(27.305,0.4) 145(28.575,-1.2) 146(29.845,0.4) 147(31.115,-1.2) 148(32.385,0.4) 149(33.655,-1.2) 150(34.925,0.4) 151(36.195,-1.2) 152(37.465,0.4) 153(38.735,-1.2) 154(40.005,0.4) 155(41.275,-1.2) 156(42.545,0.4) 157(43.815,-1.2) 158(45.085,0.4) 159(46.355,-1.2) 160(47.625,0.4) 161(48.895,-1.2) 162(50.165,0.4) 163(51.435,-1.2) 164(52.705,0.4) 165(53.975,-1.2) 166(55.245,0.4) 167(56.515,-1.2) 168(57.785,0.4)
  round 3.9 hole 2.4: 169(-60.96,4.4) 170(0,-2) 171(60.96,4.4)
Top Overlay:
  lines w0.2: -70.98,3 -70.98,17.5 -65.98,17.5 ; -65,3 -71,3 -71,-7 71,-7 71,3 ; -60.98,17.5 -55.98,17.5 ; -57,3 57,3 ; -50.98,17.5 -45.98,17.5 ; -40.98,17.5 -35.98,17.5 ; -30.98,17.5 -25.98,17.5 ; -20.98,17.5 -15.98,17.5 ; -10.98,17.5 -5.98,17.5 ; -0.98,17.5 4.02,17.5 ; 9.02,17.5 14.02,17.5 ; 19.02,17.5 24.02,17.5 ; 29.02,17.5 34.02,17.5 ; 39.02,17.5 44.02,17.5 ; 49.02,17.5 54.02,17.5 ; 59.02,17.5 64.02,17.5 ; 65,3 71,3 ; 69.02,17.5 71.02,17.5 ; 71,17.5 71,3
  text "1" at -58.035,-8.975 h1.5
  text "94" at -47.605,3.475 h1.5
  text "11" at -40.88,-8.975 h1.5
  text "96" at -39.985,3.475 h1.5
  text "124" at -5.05,3.475 h1.5
  text "41" at 2.175,-8.975 h1.5
  text "126" at 2.57,3.475 h1.5
  text "83" at 55.265,-8.975 h1.5
  text "9" at -48.125,-8.975 h1.5
  text "39" at -5.695,-8.975 h1.5
  text "168" at 54.585,3.475 h1.5

## 390195-4 [mm] "Connector; DIMM II; 168 Position; Orientation 25°"
height 14.93
pads (171):
  rect 1.4x1.4 hole 0.8: 1(-57.785,-4.4)
  round 1.4 hole 0.8: 2(-56.515,-2.8) 3(-55.245,-4.4) 4(-53.975,-2.8) 5(-52.705,-4.4) 6(-51.435,-2.8) 7(-50.165,-4.4) 8(-48.895,-2.8) 9(-47.625,-4.4) 10(-46.355,-2.8) 11(-40.005,-4.4) 12(-38.735,-2.8) 13(-37.465,-4.4) 14(-36.195,-2.8) 15(-34.925,-4.4) 16(-33.655,-2.8) 17(-32.385,-4.4) 18(-31.115,-2.8) 19(-29.845,-4.4) 20(-28.575,-2.8) 21(-27.305,-4.4) 22(-26.035,-2.8) 23(-24.765,-4.4) 24(-23.495,-2.8) 25(-22.225,-4.4) 26(-20.955,-2.8) 27(-19.685,-4.4) 28(-18.415,-2.8) 29(-17.145,-4.4) 30(-15.875,-2.8) 31(-14.605,-4.4) 32(-13.335,-2.8) 33(-12.065,-4.4) 34(-10.795,-2.8) 35(-9.525,-4.4) 36(-8.255,-2.8) 37(-6.985,-4.4) 38(-5.715,-2.8) 39(-4.445,-4.4) 40(-3.175,-2.8) 41(3.175,-4.4) 42(4.445,-2.8) 43(5.715,-4.4) 44(6.985,-2.8) 45(8.255,-4.4) 46(9.525,-2.8) 47(10.795,-4.4) 48(12.065,-2.8) 49(13.335,-4.4) 50(14.605,-2.8) 51(15.875,-4.4) 52(17.145,-2.8) 53(18.415,-4.4) 54(19.685,-2.8) 55(20.955,-4.4) 56(22.225,-2.8) 57(23.495,-4.4) 58(24.765,-2.8) 59(26.035,-4.4) 60(27.305,-2.8) 61(28.575,-4.4) 62(29.845,-2.8) 63(31.115,-4.4) 64(32.385,-2.8) 65(33.655,-4.4) 66(34.925,-2.8) 67(36.195,-4.4) 68(37.465,-2.8) 69(38.735,-4.4) 70(40.005,-2.8) 71(41.275,-4.4) 72(42.545,-2.8) 73(43.815,-4.4) 74(45.085,-2.8) 75(46.355,-4.4) 76(47.625,-2.8) 77(48.895,-4.4) 78(50.165,-2.8) 79(51.435,-4.4) 80(52.705,-2.8) 81(53.975,-4.4) 82(55.245,-2.8) 83(56.515,-4.4) 84(57.785,-2.8) 85(-57.785,-1.2) 86(-56.515,0.4) 87(-55.245,-1.2) 88(-53.975,0.4) 89(-52.705,-1.2) 90(-51.435,0.4) 91(-50.165,-1.2) 92(-48.895,0.4) 93(-47.625,-1.2) 94(-46.355,0.4) 95(-40.005,-1.2) 96(-38.735,0.4) 97(-37.465,-1.2) 98(-36.195,0.4) 99(-34.925,-1.2) 100(-33.655,0.4) 101(-32.385,-1.2) 102(-31.115,0.4) 103(-29.845,-1.2) 104(-28.575,0.4) 105(-27.305,-1.2) 106(-26.035,0.4) 107(-24.765,-1.2) 108(-23.495,0.4) 109(-22.225,-1.2) 110(-20.955,0.4) 111(-19.685,-1.2) 112(-18.415,0.4) 113(-17.145,-1.2) 114(-15.875,0.4) 115(-14.605,-1.2) 116(-13.335,0.4) 117(-12.065,-1.2) 118(-10.795,0.4) 119(-9.525,-1.2) 120(-8.255,0.4) 121(-6.985,-1.2) 122(-5.715,0.4) 123(-4.445,-1.2) 124(-3.175,0.4) 125(3.175,-1.2) 126(4.445,0.4) 127(5.715,-1.2) 128(6.985,0.4) 129(8.255,-1.2) 130(9.525,0.4) 131(10.795,-1.2) 132(12.065,0.4) 133(13.335,-1.2) 134(14.605,0.4) 135(15.875,-1.2) 136(17.145,0.4) 137(18.415,-1.2) 138(19.685,0.4) 139(20.955,-1.2) 140(22.225,0.4) 141(23.495,-1.2) 142(24.765,0.4) 143(26.035,-1.2) 144(27.305,0.4) 145(28.575,-1.2) 146(29.845,0.4) 147(31.115,-1.2) 148(32.385,0.4) 149(33.655,-1.2) 150(34.925,0.4) 151(36.195,-1.2) 152(37.465,0.4) 153(38.735,-1.2) 154(40.005,0.4) 155(41.275,-1.2) 156(42.545,0.4) 157(43.815,-1.2) 158(45.085,0.4) 159(46.355,-1.2) 160(47.625,0.4) 161(48.895,-1.2) 162(50.165,0.4) 163(51.435,-1.2) 164(52.705,0.4) 165(53.975,-1.2) 166(55.245,0.4) 167(56.515,-1.2) 168(57.785,0.4)
  round 3.9 hole 2.4: 169(-60.96,4.4) 170(0,-2) 171(60.96,4.4)
Top Overlay:
  lines w0.2: -70.98,3 -70.98,17.5 -65.98,17.5 ; -65,3 -71,3 -71,-7 71,-7 71,3 ; -60.98,17.5 -55.98,17.5 ; -57,3 57,3 ; -50.98,17.5 -45.98,17.5 ; -40.98,17.5 -35.98,17.5 ; -30.98,17.5 -25.98,17.5 ; -20.98,17.5 -15.98,17.5 ; -10.98,17.5 -5.98,17.5 ; -0.98,17.5 4.02,17.5 ; 9.02,17.5 14.02,17.5 ; 19.02,17.5 24.02,17.5 ; 29.02,17.5 34.02,17.5 ; 39.02,17.5 44.02,17.5 ; 49.02,17.5 54.02,17.5 ; 59.02,17.5 64.02,17.5 ; 65,3 71,3 ; 69.02,17.5 71.02,17.5 ; 71,17.5 71,3
  text "1" at -58.035,-8.975 h1.5
  text "94" at -47.605,3.475 h1.5
  text "11" at -40.88,-8.975 h1.5
  text "96" at -39.985,3.475 h1.5
  text "124" at -5.05,3.475 h1.5
  text "41" at 2.175,-8.975 h1.5
  text "126" at 2.57,3.475 h1.5
  text "83" at 55.265,-8.975 h1.5
  text "9" at -48.125,-8.975 h1.5
  text "39" at -5.695,-8.975 h1.5
  text "168" at 54.585,3.475 h1.5

## 390195-5 [mm] "Connector; DIMM II; 168 Position; Orientation 25°"
height 14.93
pads (171):
  rect 1.4x1.4 hole 0.8: 1(-57.785,-4.4)
  round 1.4 hole 0.8: 2(-56.515,-2.8) 3(-55.245,-4.4) 4(-53.975,-2.8) 5(-52.705,-4.4) 6(-51.435,-2.8) 7(-50.165,-4.4) 8(-48.895,-2.8) 9(-47.625,-4.4) 10(-46.355,-2.8) 11(-40.005,-4.4) 12(-38.735,-2.8) 13(-37.465,-4.4) 14(-36.195,-2.8) 15(-34.925,-4.4) 16(-33.655,-2.8) 17(-32.385,-4.4) 18(-31.115,-2.8) 19(-29.845,-4.4) 20(-28.575,-2.8) 21(-27.305,-4.4) 22(-26.035,-2.8) 23(-24.765,-4.4) 24(-23.495,-2.8) 25(-22.225,-4.4) 26(-20.955,-2.8) 27(-19.685,-4.4) 28(-18.415,-2.8) 29(-17.145,-4.4) 30(-15.875,-2.8) 31(-14.605,-4.4) 32(-13.335,-2.8) 33(-12.065,-4.4) 34(-10.795,-2.8) 35(-9.525,-4.4) 36(-8.255,-2.8) 37(-6.985,-4.4) 38(-5.715,-2.8) 39(-4.445,-4.4) 40(-3.175,-2.8) 41(3.175,-4.4) 42(4.445,-2.8) 43(5.715,-4.4) 44(6.985,-2.8) 45(8.255,-4.4) 46(9.525,-2.8) 47(10.795,-4.4) 48(12.065,-2.8) 49(13.335,-4.4) 50(14.605,-2.8) 51(15.875,-4.4) 52(17.145,-2.8) 53(18.415,-4.4) 54(19.685,-2.8) 55(20.955,-4.4) 56(22.225,-2.8) 57(23.495,-4.4) 58(24.765,-2.8) 59(26.035,-4.4) 60(27.305,-2.8) 61(28.575,-4.4) 62(29.845,-2.8) 63(31.115,-4.4) 64(32.385,-2.8) 65(33.655,-4.4) 66(34.925,-2.8) 67(36.195,-4.4) 68(37.465,-2.8) 69(38.735,-4.4) 70(40.005,-2.8) 71(41.275,-4.4) 72(42.545,-2.8) 73(43.815,-4.4) 74(45.085,-2.8) 75(46.355,-4.4) 76(47.625,-2.8) 77(48.895,-4.4) 78(50.165,-2.8) 79(51.435,-4.4) 80(52.705,-2.8) 81(53.975,-4.4) 82(55.245,-2.8) 83(56.515,-4.4) 84(57.785,-2.8) 85(-57.785,-1.2) 86(-56.515,0.4) 87(-55.245,-1.2) 88(-53.975,0.4) 89(-52.705,-1.2) 90(-51.435,0.4) 91(-50.165,-1.2) 92(-48.895,0.4) 93(-47.625,-1.2) 94(-46.355,0.4) 95(-40.005,-1.2) 96(-38.735,0.4) 97(-37.465,-1.2) 98(-36.195,0.4) 99(-34.925,-1.2) 100(-33.655,0.4) 101(-32.385,-1.2) 102(-31.115,0.4) 103(-29.845,-1.2) 104(-28.575,0.4) 105(-27.305,-1.2) 106(-26.035,0.4) 107(-24.765,-1.2) 108(-23.495,0.4) 109(-22.225,-1.2) 110(-20.955,0.4) 111(-19.685,-1.2) 112(-18.415,0.4) 113(-17.145,-1.2) 114(-15.875,0.4) 115(-14.605,-1.2) 116(-13.335,0.4) 117(-12.065,-1.2) 118(-10.795,0.4) 119(-9.525,-1.2) 120(-8.255,0.4) 121(-6.985,-1.2) 122(-5.715,0.4) 123(-4.445,-1.2) 124(-3.175,0.4) 125(3.175,-1.2) 126(4.445,0.4) 127(5.715,-1.2) 128(6.985,0.4) 129(8.255,-1.2) 130(9.525,0.4) 131(10.795,-1.2) 132(12.065,0.4) 133(13.335,-1.2) 134(14.605,0.4) 135(15.875,-1.2) 136(17.145,0.4) 137(18.415,-1.2) 138(19.685,0.4) 139(20.955,-1.2) 140(22.225,0.4) 141(23.495,-1.2) 142(24.765,0.4) 143(26.035,-1.2) 144(27.305,0.4) 145(28.575,-1.2) 146(29.845,0.4) 147(31.115,-1.2) 148(32.385,0.4) 149(33.655,-1.2) 150(34.925,0.4) 151(36.195,-1.2) 152(37.465,0.4) 153(38.735,-1.2) 154(40.005,0.4) 155(41.275,-1.2) 156(42.545,0.4) 157(43.815,-1.2) 158(45.085,0.4) 159(46.355,-1.2) 160(47.625,0.4) 161(48.895,-1.2) 162(50.165,0.4) 163(51.435,-1.2) 164(52.705,0.4) 165(53.975,-1.2) 166(55.245,0.4) 167(56.515,-1.2) 168(57.785,0.4)
  round 3.9 hole 2.4: 169(-60.96,4.4) 170(0,-2) 171(60.96,4.4)
Top Overlay:
  lines w0.2: -70.98,3 -70.98,17.5 -65.98,17.5 ; -65,3 -71,3 -71,-7 71,-7 71,3 ; -60.98,17.5 -55.98,17.5 ; -57,3 57,3 ; -50.98,17.5 -45.98,17.5 ; -40.98,17.5 -35.98,17.5 ; -30.98,17.5 -25.98,17.5 ; -20.98,17.5 -15.98,17.5 ; -10.98,17.5 -5.98,17.5 ; -0.98,17.5 4.02,17.5 ; 9.02,17.5 14.02,17.5 ; 19.02,17.5 24.02,17.5 ; 29.02,17.5 34.02,17.5 ; 39.02,17.5 44.02,17.5 ; 49.02,17.5 54.02,17.5 ; 59.02,17.5 64.02,17.5 ; 65,3 71,3 ; 69.02,17.5 71.02,17.5 ; 71,17.5 71,3
  text "1" at -58.035,-8.975 h1.5
  text "94" at -47.605,3.475 h1.5
  text "11" at -40.88,-8.975 h1.5
  text "96" at -39.985,3.475 h1.5
  text "124" at -5.05,3.475 h1.5
  text "41" at 2.175,-8.975 h1.5
  text "126" at 2.57,3.475 h1.5
  text "83" at 55.265,-8.975 h1.5
  text "9" at -48.125,-8.975 h1.5
  text "39" at -5.695,-8.975 h1.5
  text "168" at 54.585,3.475 h1.5

## 390195-6 [mm] "Connector; DIMM II; 168 Position; Orientation 25°"
height 14.93
pads (171):
  rect 1.4x1.4 hole 0.8: 1(-57.785,-4.4)
  round 1.4 hole 0.8: 2(-56.515,-2.8) 3(-55.245,-4.4) 4(-53.975,-2.8) 5(-52.705,-4.4) 6(-51.435,-2.8) 7(-50.165,-4.4) 8(-48.895,-2.8) 9(-47.625,-4.4) 10(-46.355,-2.8) 11(-40.005,-4.4) 12(-38.735,-2.8) 13(-37.465,-4.4) 14(-36.195,-2.8) 15(-34.925,-4.4) 16(-33.655,-2.8) 17(-32.385,-4.4) 18(-31.115,-2.8) 19(-29.845,-4.4) 20(-28.575,-2.8) 21(-27.305,-4.4) 22(-26.035,-2.8) 23(-24.765,-4.4) 24(-23.495,-2.8) 25(-22.225,-4.4) 26(-20.955,-2.8) 27(-19.685,-4.4) 28(-18.415,-2.8) 29(-17.145,-4.4) 30(-15.875,-2.8) 31(-14.605,-4.4) 32(-13.335,-2.8) 33(-12.065,-4.4) 34(-10.795,-2.8) 35(-9.525,-4.4) 36(-8.255,-2.8) 37(-6.985,-4.4) 38(-5.715,-2.8) 39(-4.445,-4.4) 40(-3.175,-2.8) 41(3.175,-4.4) 42(4.445,-2.8) 43(5.715,-4.4) 44(6.985,-2.8) 45(8.255,-4.4) 46(9.525,-2.8) 47(10.795,-4.4) 48(12.065,-2.8) 49(13.335,-4.4) 50(14.605,-2.8) 51(15.875,-4.4) 52(17.145,-2.8) 53(18.415,-4.4) 54(19.685,-2.8) 55(20.955,-4.4) 56(22.225,-2.8) 57(23.495,-4.4) 58(24.765,-2.8) 59(26.035,-4.4) 60(27.305,-2.8) 61(28.575,-4.4) 62(29.845,-2.8) 63(31.115,-4.4) 64(32.385,-2.8) 65(33.655,-4.4) 66(34.925,-2.8) 67(36.195,-4.4) 68(37.465,-2.8) 69(38.735,-4.4) 70(40.005,-2.8) 71(41.275,-4.4) 72(42.545,-2.8) 73(43.815,-4.4) 74(45.085,-2.8) 75(46.355,-4.4) 76(47.625,-2.8) 77(48.895,-4.4) 78(50.165,-2.8) 79(51.435,-4.4) 80(52.705,-2.8) 81(53.975,-4.4) 82(55.245,-2.8) 83(56.515,-4.4) 84(57.785,-2.8) 85(-57.785,-1.2) 86(-56.515,0.4) 87(-55.245,-1.2) 88(-53.975,0.4) 89(-52.705,-1.2) 90(-51.435,0.4) 91(-50.165,-1.2) 92(-48.895,0.4) 93(-47.625,-1.2) 94(-46.355,0.4) 95(-40.005,-1.2) 96(-38.735,0.4) 97(-37.465,-1.2) 98(-36.195,0.4) 99(-34.925,-1.2) 100(-33.655,0.4) 101(-32.385,-1.2) 102(-31.115,0.4) 103(-29.845,-1.2) 104(-28.575,0.4) 105(-27.305,-1.2) 106(-26.035,0.4) 107(-24.765,-1.2) 108(-23.495,0.4) 109(-22.225,-1.2) 110(-20.955,0.4) 111(-19.685,-1.2) 112(-18.415,0.4) 113(-17.145,-1.2) 114(-15.875,0.4) 115(-14.605,-1.2) 116(-13.335,0.4) 117(-12.065,-1.2) 118(-10.795,0.4) 119(-9.525,-1.2) 120(-8.255,0.4) 121(-6.985,-1.2) 122(-5.715,0.4) 123(-4.445,-1.2) 124(-3.175,0.4) 125(3.175,-1.2) 126(4.445,0.4) 127(5.715,-1.2) 128(6.985,0.4) 129(8.255,-1.2) 130(9.525,0.4) 131(10.795,-1.2) 132(12.065,0.4) 133(13.335,-1.2) 134(14.605,0.4) 135(15.875,-1.2) 136(17.145,0.4) 137(18.415,-1.2) 138(19.685,0.4) 139(20.955,-1.2) 140(22.225,0.4) 141(23.495,-1.2) 142(24.765,0.4) 143(26.035,-1.2) 144(27.305,0.4) 145(28.575,-1.2) 146(29.845,0.4) 147(31.115,-1.2) 148(32.385,0.4) 149(33.655,-1.2) 150(34.925,0.4) 151(36.195,-1.2) 152(37.465,0.4) 153(38.735,-1.2) 154(40.005,0.4) 155(41.275,-1.2) 156(42.545,0.4) 157(43.815,-1.2) 158(45.085,0.4) 159(46.355,-1.2) 160(47.625,0.4) 161(48.895,-1.2) 162(50.165,0.4) 163(51.435,-1.2) 164(52.705,0.4) 165(53.975,-1.2) 166(55.245,0.4) 167(56.515,-1.2) 168(57.785,0.4)
  round 3.9 hole 2.4: 169(-60.96,4.4) 170(0,-2) 171(60.96,4.4)
Top Overlay:
  lines w0.2: -70.98,3 -70.98,17.5 -65.98,17.5 ; -65,3 -71,3 -71,-7 71,-7 71,3 ; -60.98,17.5 -55.98,17.5 ; -57,3 57,3 ; -50.98,17.5 -45.98,17.5 ; -40.98,17.5 -35.98,17.5 ; -30.98,17.5 -25.98,17.5 ; -20.98,17.5 -15.98,17.5 ; -10.98,17.5 -5.98,17.5 ; -0.98,17.5 4.02,17.5 ; 9.02,17.5 14.02,17.5 ; 19.02,17.5 24.02,17.5 ; 29.02,17.5 34.02,17.5 ; 39.02,17.5 44.02,17.5 ; 49.02,17.5 54.02,17.5 ; 59.02,17.5 64.02,17.5 ; 65,3 71,3 ; 69.02,17.5 71.02,17.5 ; 71,17.5 71,3
  text "1" at -58.035,-8.975 h1.5
  text "94" at -47.605,3.475 h1.5
  text "11" at -40.88,-8.975 h1.5
  text "96" at -39.985,3.475 h1.5
  text "124" at -5.05,3.475 h1.5
  text "41" at 2.175,-8.975 h1.5
  text "126" at 2.57,3.475 h1.5
  text "83" at 55.265,-8.975 h1.5
  text "9" at -48.125,-8.975 h1.5
  text "39" at -5.695,-8.975 h1.5
  text "168" at 54.585,3.475 h1.5

## 390213-1 [mm] "Connector; DIMM II; 100 Position; Vertical"
height 23.82
pads (102):
  rect 1.4x1.4 hole 0.81: 1(-36.195,-0.95)
  round 1.4 hole 0.81: 2(-34.925,-2.85) 3(-33.655,-0.95) 4(-32.385,-2.85) 5(-31.115,-0.95) 6(-29.845,-2.85) 7(-23.495,-0.95) 8(-22.225,-2.85) 9(-20.955,-0.95) 10(-19.685,-2.85) 11(-18.415,-0.95) 12(-17.145,-2.85) 13(-15.875,-0.95) 14(-14.605,-2.85) 15(-13.335,-0.95) 16(-12.065,-2.85) 17(-10.795,-0.95) 18(-9.525,-2.85) 19(-8.255,-0.95) 20(-6.985,-2.85) 21(-5.715,-0.95) 22(-4.445,-2.85) 23(1.905,-0.95) 24(3.175,-2.85) 25(4.445,-0.95) 26(5.715,-2.85) 27(6.985,-0.95) 28(8.255,-2.85) 29(9.525,-0.95) 30(10.795,-2.85) 31(12.065,-0.95) 32(13.335,-2.85) 33(14.605,-0.95) 34(15.875,-2.85) 35(17.145,-0.95) 36(18.415,-2.85) 37(19.685,-0.95) 38(20.955,-2.85) 39(22.225,-0.95) 40(23.495,-2.85) 41(24.765,-0.95) 42(26.035,-2.85) 43(27.305,-0.95) 44(28.575,-2.85) 45(29.845,-0.95) 46(31.115,-2.85) 47(32.385,-0.95) 48(33.655,-2.85) 49(34.925,-0.95) 50(36.195,-2.85) 51(-36.195,2.85) 52(-34.925,0.95) 53(-33.655,2.85) 54(-32.385,0.95) 55(-31.115,2.85) 56(-29.845,0.95) 57(-23.495,2.85) 58(-22.225,0.95) 59(-20.955,2.85) 60(-19.685,0.95) 61(-18.415,2.85) 62(-17.145,0.95) 63(-15.875,2.85) 64(-14.605,0.95) 65(-13.335,2.85) 66(-12.065,0.95) 67(-10.795,2.85) 68(-9.525,0.95) 69(-8.255,2.85) 70(-6.985,0.95) 71(-5.715,2.85) 72(-4.445,0.95) 73(1.905,2.85) 74(3.175,0.95) 75(4.445,2.85) 76(5.715,0.95) 77(6.985,2.85) 78(8.255,0.95) 79(9.525,2.85) 80(10.795,0.95) 81(12.065,2.85) 82(13.335,0.95) 83(14.605,2.85) 84(15.875,0.95) 85(17.145,2.85) 86(18.415,0.95) 87(19.685,2.85) 88(20.955,0.95) 89(22.225,2.85) 90(23.495,0.95) 91(24.765,2.85) 92(26.035,0.95) 93(27.305,2.85) 94(28.575,0.95) 95(29.845,2.85) 96(31.115,0.95) 97(32.385,2.85) 98(33.655,0.95) 99(34.925,2.85) 100(36.195,0.95)
  round 4.04 hole 2.54: 101(-39.365,0) 102(39.365,0)
Top Overlay:
  lines w0.2: -48.9,-4 48.9,-4 48.9,4 -48.9,4 -48.9,-4
  text "100" at 34.32,4.475 h1.5
  text "50" at 34.945,-5.975 h1.5
  text "73" at 0.655,4.475 h1.5
  text "24" at 1.925,-5.975 h1.5
  text "71" at -6.715,4.475 h1.5
  text "22" at -5.695,-5.975 h1.5
  text "57" at -24.745,4.475 h1.5
  text "7" at -22.725,-5.975 h1.5
  text "55" at -32.365,4.475 h1.5
  text "6" at -30.345,-5.975 h1.5
  text "51" at -37.195,4.475 h1.5
  text "1" at -36.445,-5.975 h1.5